# Altium schematic symbol library ASDMB-24.576MHZ-LC-T.SchLib: 1 symbol
Pins are listed as number, name and electrical type; pins without a type are passive.

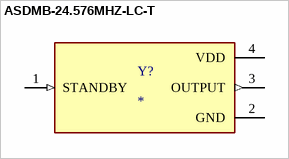
[diagram p0: symbol ASDMB-24.576MHZ-LC-T]

## ASDMB-24.576MHZ-LC-T
designator Y?
MP: ASDMB-24.576MHZ-LC-T; Package: None; Price: None; Availability: Unavailable; Value: *
footprint XTAL_ASDMB-24.576MHZ-LC-T
pins: 1 STANDBY (in), 2 GND (power), 3 OUTPUT (out), 4 VDD (power)